# EAGLE library part DG636 (library components)
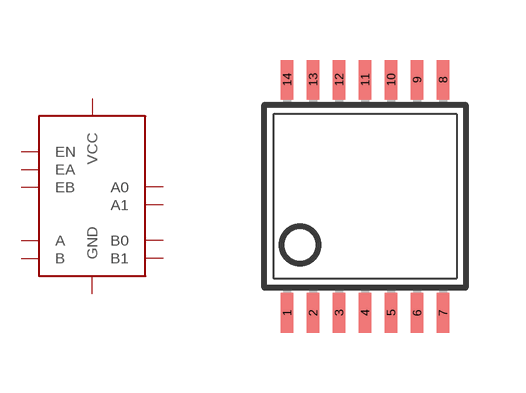
[diagram p13: symbol with the pads of TSSOP14; footprint TSSOP14]

Designator prefix -

## DG636  [TSSOP14]
1  EA
2  EN
3  GND
4  A0
5  A1
6  A
9  B
10  B1
11  B0
12  VCC
13  GND
14  EB

## Footprint TSSOP14 (pad centres in mm)
Thin Shrink Small Outline Plastic 14 MAX3223-MAX3243.pdf
smd 0.305 x 0.991: 1 -1.95,-2.918; 2 -1.3,-2.918; 3 -0.65,-2.918; 4 0,-2.918; 5 0.65,-2.918; 6 1.3,-2.918; 7 1.95,-2.918; 8 1.95,2.918; 9 1.3,2.918; 10 0.65,2.918; 11 0,2.918; 12 -0.65,2.918; 13 -1.3,2.918; 14 -1.95,2.918